# Altium schematic symbol library IP175GHI.Schlib: 1 symbol
Pins are listed as number, name and electrical type; pins without a type are passive.

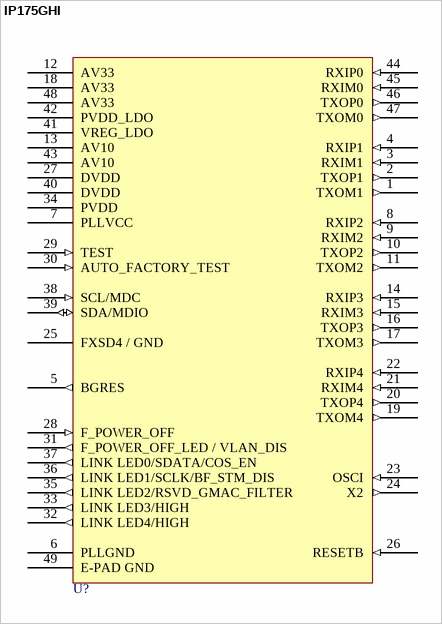
[diagram p0: symbol IP175GHI]

## IP175GHI
designator U?
5 Port 10/100 Ethernet Integrated Switch
pins: 1 TXOM1 (out), 2 TXOP1 (out), 3 RXIM1 (in), 4 RXIP1 (in), 5 BGRES (out), 6 PLLGND (power), 7 PLLVCC (power), 8 RXIP2 (in), 9 RXIM2 (in), 10 TXOP2 (out), 11 TXOM2 (out), 12 AV33 (power), 13 AV10 (power), 14 RXIP3 (in), 15 RXIM3 (in), 16 TXOP3 (out), 17 TXOM3 (out), 18 AV33 (power), 19 TXOM4 (out), 20 TXOP4 (out), 21 RXIM4 (in), 22 RXIP4 (in), 23 OSCI (in), 24 X2 (out), 25 FXSD4 / GND "FXSD4(GH,GHI) / GND(G,GI)", 26 RESETB (in), 27 DVDD (power), 28 F_POWER_OFF (in), 29 TEST (in), 30 AUTO_FACTORY_TEST (in), 31 F_POWER_OFF_LED / VLAN_DIS (out), 32 LINK LED4/HIGH (out), 33 LINK LED3/HIGH (out), 34 PVDD (power), 35 LINK LED2/RSVD_GMAC_FILTER (out), 36 LINK LED1/SCLK/BF_STM_DIS (out), 37 LINK LED0/SDATA/COS_EN (out), 38 SCL/MDC (in), 39 SDA/MDIO (io), 40 DVDD (power), 41 VREG_LDO (power), 42 PVDD_LDO (power), 43 AV10 (power), 44 RXIP0 (in), 45 RXIM0 (in), 46 TXOP0 (out), 47 TXOM0 (out), 48 AV33 (power), 49 E-PAD GND (power)